# EAGLE library part 64901229522 (library Wire-to-Board (rev18a))
WR-MPC4-4.20mm Male Dual Row Angled Header,12 pins=>Code : WR-MPC4_Stiftbuchse_2reihig_abgewinkelt_64901229522 <http://katalog.we-online.de/media/thumbs2/eican/thb_WR-MPC4_Stiftbuchse_2reihig_abgewinkelt_64901029522.jpg> Details see: http://katalog.we-online.de/en/em/MPC4_4_20_MALE_DUAL_ROW_ANGLED_HEADER_6490XX29522 Created 2014-06-06, Karrer Zheng 2014 (C) Würth Elektronik
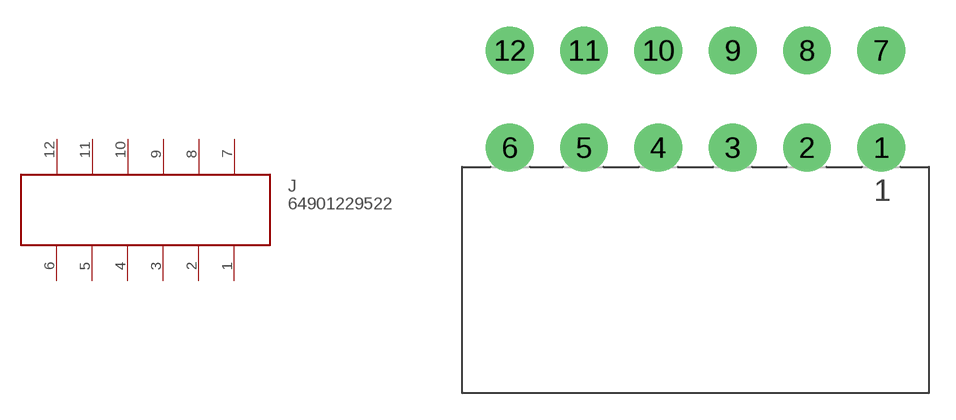
[diagram p294: symbol with the pads of 64901229522; footprint 64901229522]

Designator prefix J

## 64901229522  [64901229522]
1  1
2  2
3  3
4  4
5  5
6  6
7  7
8  8
9  9
10  10
11  11
12  12

## Footprint 64901229522 (pad centres in mm)
WR-MPC4-4.20mm Male Dual Row Angled Header,12 pins
drill 1.8: 1 10.5,-2.75; 2 6.3,-2.75; 3 2.1,-2.75; 4 -2.1,-2.75; 5 -6.3,-2.75; 6 -10.5,-2.75; 7 10.5,2.75; 8 6.3,2.75; 9 2.1,2.75; 10 -2.1,2.75; 11 -6.3,2.75; 12 -10.5,2.75